# Altium footprint library halfgelijders.PcbLib: 22 footprints (part 2 of 2)
Each footprint in its own frame and in the unit in brackets; x right, y up, seen from the top. Pads: shape width x height; smd on the part's side, far side on the other; paste and mask are expansions set on the pad; w line width, h text height; cw(c..) or ccw(c..) is an arc to the next point about the centre after c.
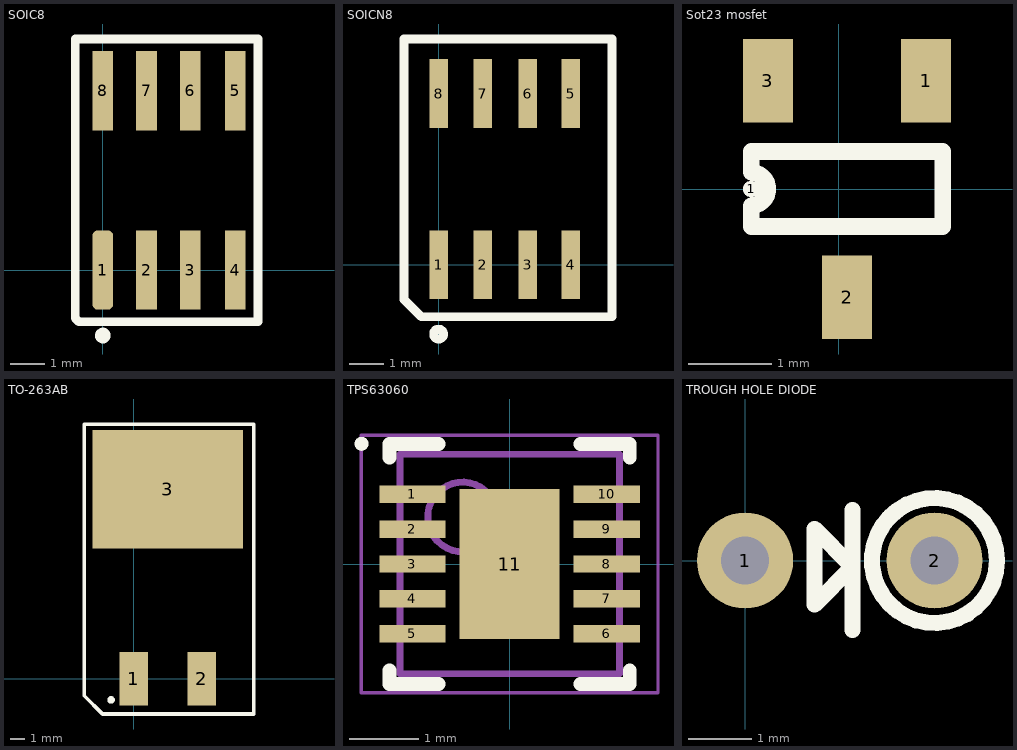
[diagram p1: the footprints below, top view; thin cyan lines are the x and y axes]

## SOIC8 [mm] "for mlx91221"
pads (8):
  rrect50% 0.6x2.3 smd: 1(0,0)
  rect 0.6x2.3 smd: 2(1.27,0) 3(2.54,0) 4(3.84,0) 5(3.84,5.2) 6(2.54,5.2) 7(1.27,5.2) 8(0,5.2)
Top Overlay:
  circle w0.254: c0,-1.9 r0.1
  lines w0.254: -0.8,-1.4 -0.8,6.7 4.5,6.7 4.5,-1.5 -0.7,-1.5 -0.8,-1.4
3D body "SOIC8.step": height 1.7, standoff 0, extent -0.55,-0.5 4.35,5.5

## SOICN8 [mm] "For MAX5035"
pads (8):
  rect 0.53x1.98 smd: 1(0,0) 2(1.27,0) 3(2.57,0) 4(3.81,0) 5(3.81,4.93) 6(2.57,4.93) 7(1.27,4.93) 8(0,4.93)
Top Overlay:
  circle w0.254: c0,-2 r0.141
  lines w0.254: -1,-1 -1,6.5 5,6.5 5,-1.5 -0.5,-1.5 -1,-1
3D body "SOIC-8.step": height 1.95, standoff 0, extent -0.602,-0.6 4.402,5.598

## Sot23 mosfet [mm]
pads (4):
  round 0.2 on Top Overlay: 1(-1.05,0)
  rect 0.6x1 smd: 1(1.05,1.3) 2(0.1,-1.3) 3(-0.85,1.3)
Top Overlay:
  lines w0.2: -1.05,-0.45 1.25,-0.45 1.25,0.45 -1.05,0.45 -1.05,0.2 cw(c-1.05,0) -1.05,-0.2 -1.05,-0.45
3D body "SOT23-3.step": height 1.3, standoff 0, extent -1.35,-1.4 1.55,1.4

## TO-263AB [mm]
pads (3):
  rect 2.032x3.81 smd: 1(0,0) 2(4.82,0)
  rect 10.66x8.38 smd: 3(2.4,13.4)
Top Overlay:
  circle w0.254: c-1.6,-1.5 r0.141
  lines w0.254: -3.5,-1.2 -2.2,-2.5 8.5,-2.5 8.5,18 -3.5,18 -3.5,-1.2
3D body "User Library-DPAK4P254_1524X483L228X146T686X1067.STEP": height 4.83, standoff 0, extent -2.935,-1.322 7.735,13.923

## TPS63060 [mm]
height 0.8
pads (11):
  rect 0.95x0.25 smd: 1(-1.395,1) 2(-1.395,0.5) 3(-1.395,0) 4(-1.395,-0.5) 5(-1.395,-1) 6(1.395,-1) 7(1.395,-0.5) 8(1.395,0) 9(1.395,0.5) 10(1.395,1)
  rect 1.44x2.15 smd: 11(0,0)
Top Overlay:
  circle w0.1: c-2.125,1.725 r0.05
  lines w0.2: -1.725,-1.525 -1.725,-1.725 -1.02,-1.725 ; -1.725,1.525 -1.725,1.725 -1.02,1.725 ; 1.02,-1.725 1.725,-1.725 1.725,-1.525 ; 1.02,1.725 1.725,1.725 1.725,1.525
Mechanical 13:
  circle w0.1: c-0.675,0.675 r0.5
  lines w0.1: -1.575,-1.575 1.575,-1.575 1.575,1.575 -1.575,1.575 -1.575,-1.575
Mechanical 15:
  lines w0.05: -2.13,-1.85 2.13,-1.85 2.13,1.85 -2.13,1.85 -2.13,-1.85
  lines w0.1: -0.5,0 0.5,0 ; 0,-0.5 0,0.5
3D body "10WSON.step": height 0.7, standoff 0.01, extent -1.5,-1.5 1.51,1.5

## TROUGH HOLE DIODE [mil] "for 50SQ100"
pads (2):
  round 60 hole 30: 1(0,0) 2(118.11,0)
Top Overlay:
  circle w10: c118.11,0 r38.97
  lines w10: 66.93,-43.31 66.93,31.5 66.93,-3.94 ; 66.93,-3.94 43.31,19.68 43.31,-27.56 66.93,-3.94